# Altium schematic symbol library switch.SchLib: 4 symbols
Pins are listed as number, name and electrical type; pins without a type are passive.

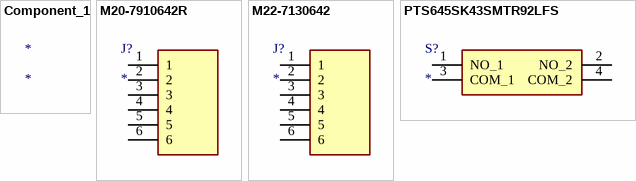
[diagram p0: symbols Component_1 to PTS645SK43SMTR92LFS]

## Component_1
designator *

## M20-7910642R
designator J?
Connector; Manufacturer_Name: Harwin; Manufacturer_Part_Number: M20-7910642R; Datasheet Link: https://cdn.harwin.com/pdfs/M20-791R.pdf; Mouser Part Number: 855-M20-7910642R; Mouser Price/Stock: https://www.mouser.co.uk/ProductDetail/Harwin/M20-7910642R?qs=k41KVqW3ymovSPRowkWy%2Fg%3D%3D
footprint M20-7910642R
pins: 1, 2, 3, 4, 5, 6

## M22-7130642
designator J?
Connector; Manufacturer_Name: Harwin; Manufacturer_Part_Number: M22-7130642; Datasheet Link: https://cdn.harwin.com/pdfs/M22-713.pdf; Height: 4.4mm; Mouser Part Number: 855-M22-7130642; Mouser Price/Stock: https://www.mouser.co.uk/ProductDetail/Harwin/M22-7130642?qs=ulE8k0yEMYZNQ0oQsOYRzA%3D%3D
footprint RHDR6W50P0X200_1X6_1250X240X440P
pins: 1, 2, 3, 4, 5, 6

## PTS645SK43SMTR92LFS
designator S?
Switch; Manufacturer_Name: C & K COMPONENTS; Manufacturer_Part_Number: PTS645SK43SMTR92LFS; Description: PTS645SK43SMTR92LFS (Tactile Switches); Datasheet Link: https://www.ckswitches.com/media/1471/pts645.pdf; Height: 4.4mm; Mouser Part Number: 611-PTS645SK43SMTR92; Mouser Price/Stock: https://www.mouser.co.uk/ProductDetail/CK/PTS645SK43SMTR92LFS?qs=UxeAxwACbqlWa%2Fy4o%252BzfBw%3D%3D; Arrow Part Number: PTS645SK43SMTR92LFS; Arrow Price/Stock: https://www.arrow.com/en/products/pts645sk43smtr92lfs/ck?region=nac
footprint PTS645SK43SMTR92LFS
pins: 1 NO_1, 2 NO_2, 3 COM_1, 4 COM_2